# EAGLE library part STL45P3LLH6 (library STL45P3LLH6)
Trans MOSFET P-CH 30V 45A 8-Pin Power Flat EP T/R Source: Datasheet <https://www.st.com/resource/en/datasheet/stl45p3llh6.pdf>
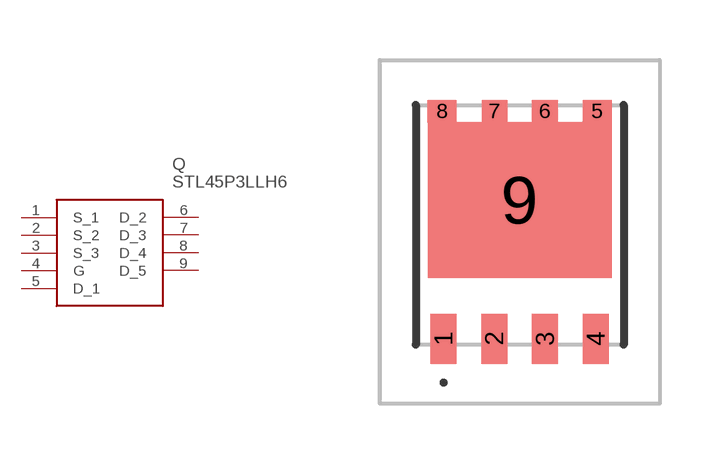
[diagram p0: symbol with the pads of STL45P3LLH6; footprint STL45P3LLH6]

Designator prefix Q

## STL45P3LLH6 (Description: Trans MOSFET P-CH 30V 45A 8-Pin Power Flat EP T/R; Height: 1mm; Manufacturer_Name: STMicroelectronics; Manufacturer_Part_Number: STL45P3LLH6)  [STL45P3LLH6]
1  S_1
2  S_2
3  S_3
4  G
5  D_1
6  D_2
7  D_3
8  D_4
9  D_5

## Footprint STL45P3LLH6 (pad centres in mm)
PowerFLAT™ 5x6 type R_2021
smd 0.65 x 1.25: 1 -1.905,-2.85; 2 -0.635,-2.85; 3 0.635,-2.85; 4 1.905,-2.85
smd 0.725 x 0.55: 5 1.938,2.85; 8 -1.938,2.85
smd 0.638 x 0.55: 6 0.631,2.85; 7 -0.631,2.85
smd 4.6 x 3.9: 9 0,0.625